# Altium schematic symbol library 3.三极管原理库.SchLib: 9 symbols
Pins are listed as number, name and electrical type; pins without a type are passive.

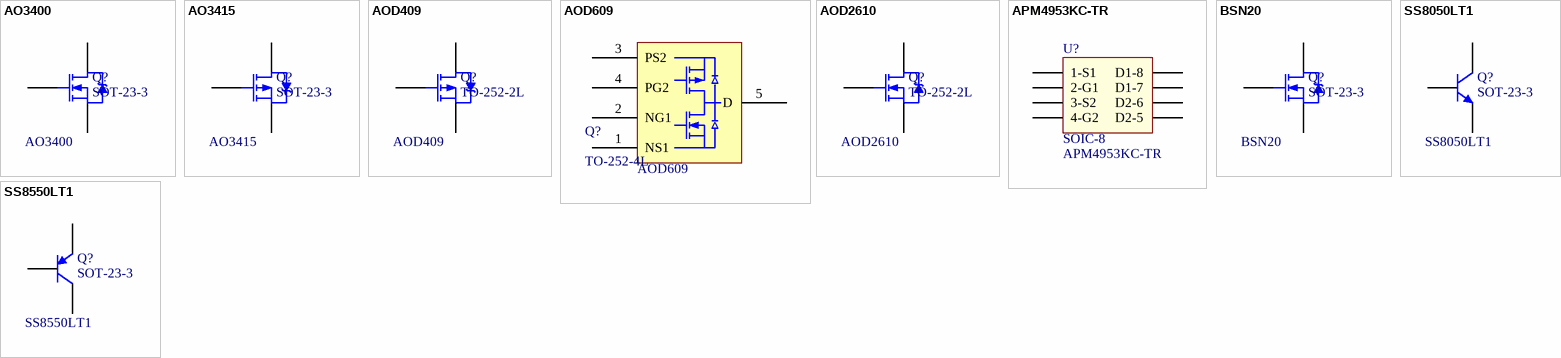
[diagram p0: symbols AO3400 to SS8550LT1]

## AO3400
designator Q?, comment SOT-23-3  value AO3400
N-Channel MOSFET
footprint SOT-23-3 (SOT23, 3-Leads, Body 2.9x1.3mm, Pitch 0.95mm, Lead Span 2.5mm, IPC High Density)
pins: 1 G, 2 S, 3 D

## AO3415
designator Q?, comment SOT-23-3  value AO3415
P-Channel MOSFET
footprint SOT-23-3 (SOT23, 3-Leads, Body 2.9x1.3mm, Pitch 0.95mm, Lead Span 2.5mm, IPC High Density)
pins: 1 G, 2 S, 3 D

## AOD409
designator Q?, comment TO-252-2L  value AOD409
P-Channel MOSFET
footprint TO-252-2L
pins: 1 G, 2 S, 3 D

## AOD609
designator Q?, comment TO-252-4L  value AOD609
Complementary Enhancement Mode Field Effect Transistor
footprint TO-252-4L
pins: 1 NS1, 2 NG1, 3 PS2, 4 PG2, 5 D

## AOD2610
designator Q?, comment TO-252-2L  value AOD2610
60V N-Channel MOSFET
footprint TO-252-2L
pins: 1 G, 2 S, 3 D

## APM4953KC-TR
designator U?, comment SOIC-8  value APM4953KC-TR
Dual P-Channel Enhancement Mode MOSFET
footprint SOIC-8
pins: 1 1-S1, 2 2-G1, 3 3-S2, 4 4-G2, 5 D2-5, 6 D2-6, 7 D1-7, 8 D1-8

## BSN20
designator Q?, comment SOT-23-3  value BSN20
20V N-Channel MOSFET
footprint SOT-23-3 (SOT23, 3-Leads, Body 2.9x1.3mm, Pitch 0.95mm, Lead Span 2.5mm, IPC High Density)
pins: 1 G, 2 S, 3 D

## SS8050LT1
designator Q?, comment SOT-23-3  value SS8050LT1
NPN Bipolar Transistor
footprint SOT-23-3 (SOT23, 3-Leads, Body 2.9x1.3mm, Pitch 0.95mm, Lead Span 2.5mm, IPC High Density)
pins: 1 B, 2 E, 3 C

## SS8550LT1
designator Q?, comment SOT-23-3  value SS8550LT1
PNP Bipolar Transistor
footprint SOT-23-3 (SOT23, 3-Leads, Body 2.9x1.3mm, Pitch 0.95mm, Lead Span 2.5mm, IPC High Density)
pins: 1 B, 2 E, 3 C